# Altium footprint library HDDR_20x1_0.PcbLib: 1 footprints
Each footprint in its own frame and in the unit in brackets; x right, y up, seen from the top. Pads: shape width x height; smd on the part's side, far side on the other; paste and mask are expansions set on the pad; w line width, h text height; cw(c..) or ccw(c..) is an arc to the next point about the centre after c.
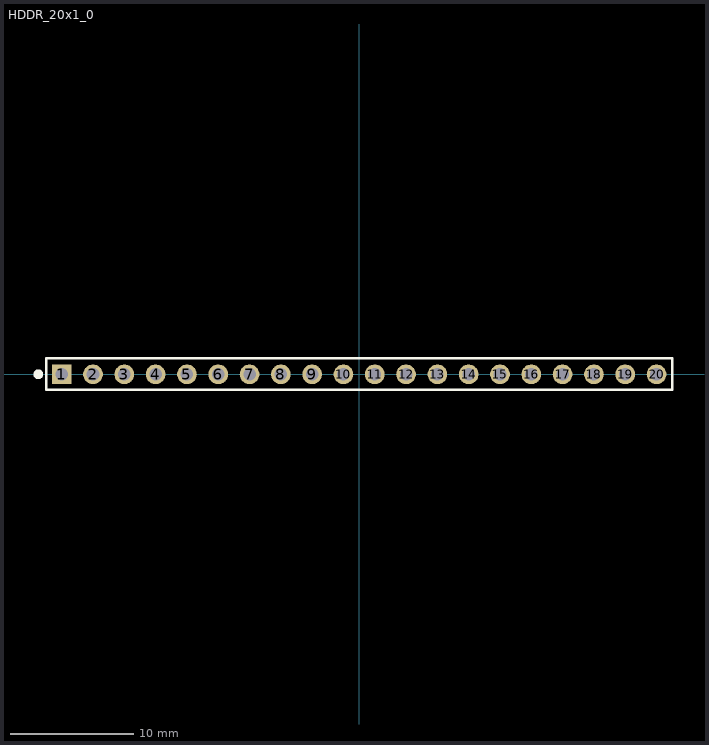
[diagram p0: the footprint, top view; thin cyan lines are the x and y axes]

## HDDR_20x1_0 [mm]
pads (20):
  rect 1.6x1.6 hole 1.02: 1(-24.13,0)
  round 1.6 hole 1.02: 2(-21.59,0) 3(-19.05,0) 4(-16.51,0) 5(-13.97,0) 6(-11.43,0) 7(-8.89,0) 8(-6.35,0) 9(-3.81,0) 10(-1.27,0) 11(1.27,0) 12(3.81,0) 13(6.35,0) 14(8.89,0) 15(11.43,0) 16(13.97,0) 17(16.51,0) 18(19.05,0) 19(21.59,0) 20(24.13,0)
Top Overlay:
  circle w0.4: c-26.03,0 r0.2
  lines w0.2: -25.38,-1.25 25.4,-1.25 25.4,1.3 -25.38,1.3 -25.38,-1.25
3D body "hddr_male_20x1.SLDPRT": height 8.54, standoff -3, extent -25.4,-1.24 25.4,1.3